# Altium integrated library Tag-Connect.IntLib: 3 symbols
Pins are listed as number, name and electrical type; pins without a type are passive.

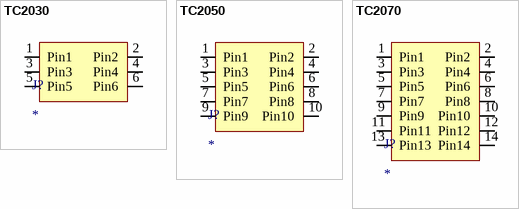
[diagram p0: symbols TC2030 to TC2070]

## TC2030
designator J?
footprint TC2030
footprint TC2030-NL
pins: 1 Pin1, 2 Pin2, 3 Pin3, 4 Pin4, 5 Pin5, 6 Pin6

## TC2050
designator J?
footprint TC2050
footprint TC2050-NL
pins: 1 Pin1, 2 Pin2, 3 Pin3, 4 Pin4, 5 Pin5, 6 Pin6, 7 Pin7, 8 Pin8, 9 Pin9, 10 Pin10

## TC2070
designator J?
footprint TC2070
footprint TC2070-NL
pins: 1 Pin1, 2 Pin2, 3 Pin3, 4 Pin4, 5 Pin5, 6 Pin6, 7 Pin7, 8 Pin8, 9 Pin9, 10 Pin10, 11 Pin11, 12 Pin12, 13 Pin13, 14 Pin14